# Altium footprint library Headers.PcbLib: 21 footprints (part 1 of 2)
Each footprint in its own frame and in the unit in brackets; x right, y up, seen from the top. Pads: shape width x height; smd on the part's side, far side on the other; paste and mask are expansions set on the pad; w line width, h text height; cw(c..) or ccw(c..) is an arc to the next point about the centre after c.
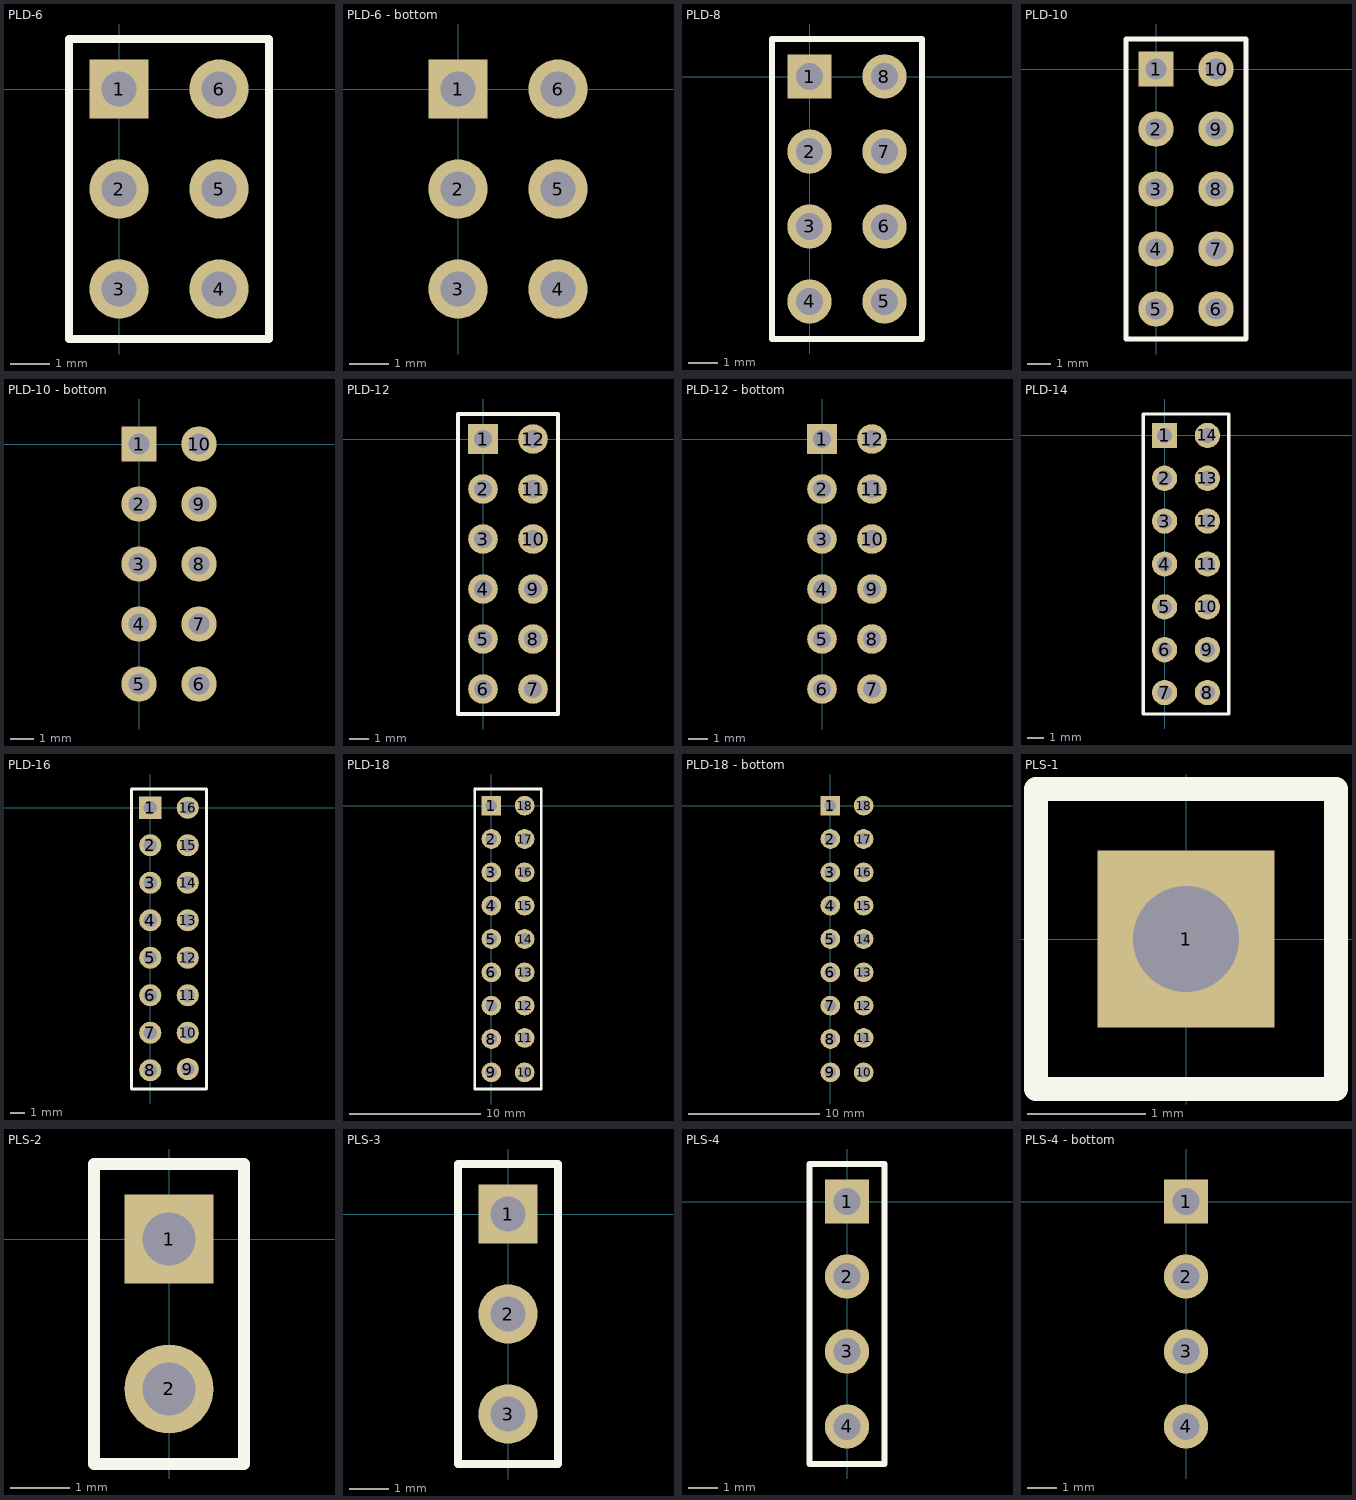
[diagram p0: the footprints below, top view; thin cyan lines are the x and y axes]

## PLD-6 [mm]
pads (6):
  rect 1.5x1.5 hole 0.9: 1(0,0)
  round 1.5 hole 0.9: 2(0,-2.54) 3(0,-5.08) 4(2.54,-5.08) 5(2.54,-2.54) 6(2.54,0)
Top Overlay:
  lines w0.2: -1.27,-6.35 3.81,-6.35 3.81,1.27 -1.27,1.27 -1.27,-6.35

## PLD-6 - bottom [mm]
pads (6):
  rect 1.5x1.5 hole 0.9: 1(0,0)
  round 1.5 hole 0.9: 2(0,-2.54) 3(0,-5.08) 4(2.54,-5.08) 5(2.54,-2.54) 6(2.54,0)
Bottom Overlay:
  lines w0.2: -1.27,-6.35 -1.27,1.27 3.81,1.27 3.81,-6.35 -1.27,-6.35

## PLD-8 [mm]
pads (8):
  rect 1.5x1.5 hole 0.9: 1(0,0)
  round 1.5 hole 0.9: 2(0,-2.54) 3(0,-5.08) 4(0,-7.62) 5(2.54,-7.62) 6(2.54,-5.08) 7(2.54,-2.54) 8(2.54,0)
Top Overlay:
  lines w0.2: -1.27,-8.89 -1.27,1.27 3.81,1.27 3.81,-8.89 -1.27,-8.89

## PLD-10 [mm]
pads (10):
  rect 1.5x1.5 hole 0.9: 1(0,0)
  round 1.5 hole 0.9: 2(0,-2.54) 3(0,-5.08) 4(0,-7.62) 5(0,-10.16) 6(2.54,-10.16) 7(2.54,-7.62) 8(2.54,-5.08) 9(2.54,-2.54) 10(2.54,0)
Top Overlay:
  lines w0.2: -1.27,-11.43 -1.27,1.27 3.81,1.27 3.81,-11.43 -1.27,-11.43

## PLD-10 - bottom [mm]
pads (10):
  rect 1.5x1.5 hole 0.9: 1(0,0)
  round 1.5 hole 0.9: 2(0,-2.54) 3(0,-5.08) 4(0,-7.62) 5(0,-10.16) 6(2.54,-10.16) 7(2.54,-7.62) 8(2.54,-5.08) 9(2.54,-2.54) 10(2.54,0)
Bottom Overlay:
  lines w0.2: -1.27,-11.43 -1.27,1.27 3.81,1.27 3.81,-11.43 -1.27,-11.43

## PLD-12 [mm]
pads (12):
  rect 1.5x1.5 hole 0.9: 1(0,0)
  round 1.5 hole 0.9: 2(0,-2.54) 3(0,-5.08) 4(0,-7.62) 5(0,-10.16) 6(0,-12.7) 7(2.54,-12.7) 8(2.54,-10.16) 9(2.54,-7.62) 10(2.54,-5.08) 11(2.54,-2.54) 12(2.54,0)
Top Overlay:
  lines w0.2: -1.27,-13.97 3.81,-13.97 3.81,1.27 -1.27,1.27 -1.27,-13.97

## PLD-12 - bottom [mm]
pads (12):
  rect 1.5x1.5 hole 0.9: 1(0,0)
  round 1.5 hole 0.9: 2(0,-2.54) 3(0,-5.08) 4(0,-7.62) 5(0,-10.16) 6(0,-12.7) 7(2.54,-12.7) 8(2.54,-10.16) 9(2.54,-7.62) 10(2.54,-5.08) 11(2.54,-2.54) 12(2.54,0)
Bottom Overlay:
  lines w0.2: -1.27,-13.97 -1.27,1.27 3.81,1.27 3.81,-13.97 -1.27,-13.97

## PLD-14 [mm]
pads (14):
  rect 1.5x1.5 hole 0.9: 1(0,0)
  round 1.5 hole 0.9: 2(0,-2.54) 3(0,-5.08) 4(0,-7.62) 5(0,-10.16) 6(0,-12.7) 7(0,-15.24) 8(2.54,-15.24) 9(2.54,-12.7) 10(2.54,-10.16) 11(2.54,-7.62) 12(2.54,-5.08) 13(2.54,-2.54) 14(2.54,0)
Top Overlay:
  lines w0.2: -1.27,-16.51 3.81,-16.51 3.81,1.27 -1.27,1.27 -1.27,-16.51

## PLD-16 [mm]
pads (16):
  rect 1.5x1.5 hole 0.9: 1(0,0)
  round 1.5 hole 0.9: 2(0,-2.54) 3(0,-5.08) 4(0,-7.62) 5(0,-10.16) 6(0,-12.7) 7(0,-15.24) 8(0,-17.78) 9(2.54,-17.7) 10(2.54,-15.24) 11(2.54,-12.7) 12(2.54,-10.16) 13(2.54,-7.62) 14(2.54,-5.08) 15(2.54,-2.54) 16(2.54,0)
Top Overlay:
  lines w0.2: -1.27,-19.05 3.81,-19.05 3.81,1.27 -1.27,1.27 -1.27,-19.05

## PLD-18 [mm]
pads (18):
  rect 1.5x1.5 hole 0.9: 1(0,0)
  round 1.5 hole 0.9: 2(0,-2.54) 3(0,-5.08) 4(0,-7.62) 5(0,-10.16) 6(0,-12.7) 7(0,-15.24) 8(0,-17.78) 9(0,-20.32) 10(2.54,-20.32) 11(2.54,-17.7) 12(2.54,-15.24) 13(2.54,-12.7) 14(2.54,-10.16) 15(2.54,-7.62) 16(2.54,-5.08) 17(2.54,-2.54) 18(2.54,0)
Top Overlay:
  lines w0.2: -1.27,-21.59 3.81,-21.59 3.81,1.27 -1.27,1.27 -1.27,-21.59

## PLD-18 - bottom [mm]
pads (18):
  rect 1.5x1.5 hole 0.9: 1(0,0)
  round 1.5 hole 0.9: 2(0,-2.54) 3(0,-5.08) 4(0,-7.62) 5(0,-10.16) 6(0,-12.7) 7(0,-15.24) 8(0,-17.78) 9(0,-20.32) 10(2.54,-20.32) 11(2.54,-17.7) 12(2.54,-15.24) 13(2.54,-12.7) 14(2.54,-10.16) 15(2.54,-7.62) 16(2.54,-5.08) 17(2.54,-2.54) 18(2.54,0)
Bottom Overlay:
  lines w0.2: -1.27,-21.59 -1.27,1.27 3.81,1.27 3.81,-21.59 -1.27,-21.59

## PLS-1 [mm]
pads (1):
  rect 1.5x1.5 hole 0.9: 1(0,0)
Top Overlay:
  lines w0.2: -1.27,-1.27 -1.27,1.27 1.27,1.27 1.27,-1.27 -1.27,-1.27

## PLS-2 [mm]
pads (2):
  rect 1.5x1.5 / inner rect 1.6x1.5 / far side rect 1.5x1.5 hole 0.9: 1(0,0)
  round 1.5 / inner oval 1.6x1.5 / far side round 1.5 hole 0.9: 2(0,-2.54)
Top Overlay:
  lines w0.2: -1.27,-3.81 -1.27,1.27 1.27,1.27 1.27,-3.81 -1.27,-3.81

## PLS-3 [mm]
pads (3):
  rect 1.5x1.5 / inner rect 1.6x1.5 / far side rect 1.5x1.5 hole 0.9: 1(0,0)
  round 1.5 / inner oval 1.6x1.5 / far side round 1.5 hole 0.9: 2(0,-2.54) 3(0,-5.08)
Top Overlay:
  lines w0.2: -1.27,-6.35 -1.27,1.27 1.27,1.27 1.27,-6.35 -1.27,-6.35

## PLS-4 [mm]
pads (4):
  rect 1.5x1.5 / inner rect 1.6x1.5 / far side rect 1.5x1.5 hole 0.9: 1(0,0)
  round 1.5 / inner oval 1.6x1.5 / far side round 1.5 hole 0.9: 2(0,-2.54) 3(0,-5.08) 4(0,-7.62)
Top Overlay:
  lines w0.2: -1.27,-8.89 1.27,-8.89 1.27,1.27 -1.27,1.27 -1.27,-8.89

## PLS-4 - bottom [mm]
pads (4):
  rect 1.5x1.5 / inner rect 1.6x1.5 / far side rect 1.5x1.5 hole 0.9: 1(0,0)
  round 1.5 / inner oval 1.6x1.5 / far side round 1.5 hole 0.9: 2(0,-2.54) 3(0,-5.08) 4(0,-7.62)
Bottom Overlay:
  lines w0.2: -1.27,-8.89 1.27,-8.89 1.27,1.27 -1.27,1.27 -1.27,-8.89